# EAGLE library part 8748 (library oldchips)
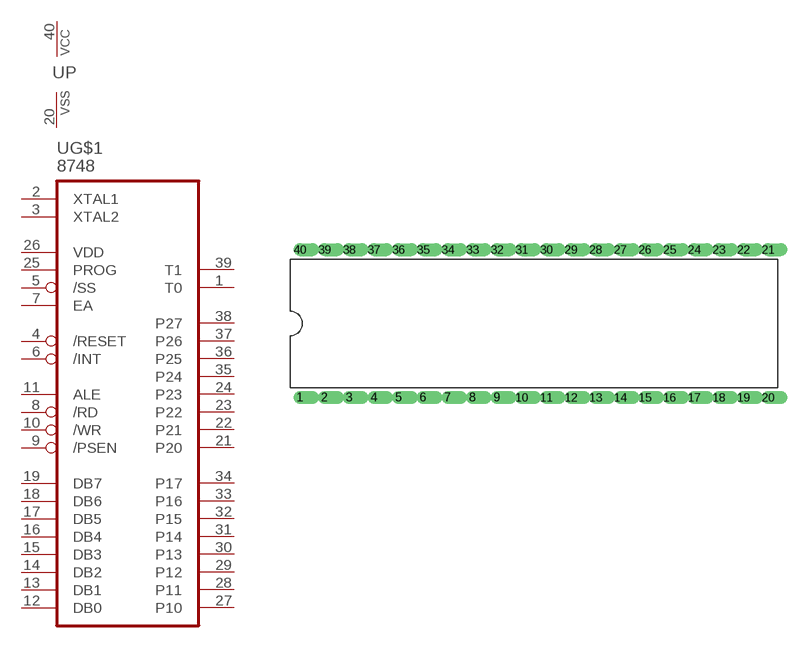
[diagram p3: symbol with the pads of DIL40; footprint DIL40]

Designator prefix U; gates G$1=8748 P=VCCVSS

## 8748  [DIL40]
1  G$1:T0  in
2  G$1:XTAL1  in
3  G$1:XTAL2  in
4  G$1:/RESET  in
5  G$1:/SS  in
6  G$1:/INT
7  G$1:EA  in
8  G$1:/RD  out
9  G$1:/PSEN  out
10  G$1:/WR  out
11  G$1:ALE  out
12  G$1:DB0
13  G$1:DB1
14  G$1:DB2
15  G$1:DB3
16  G$1:DB4
17  G$1:DB5
18  G$1:DB6
19  G$1:DB7
20  P:VSS  pwr
21  G$1:P20
22  G$1:P21
23  G$1:P22
24  G$1:P23
25  G$1:PROG
26  G$1:VDD  sup
27  G$1:P10
28  G$1:P11
29  G$1:P12
30  G$1:P13
31  G$1:P14
32  G$1:P15
33  G$1:P16
34  G$1:P17
35  G$1:P24
36  G$1:P25
37  G$1:P26
38  G$1:P27
39  G$1:T1  in
40  P:VCC  pwr

## Footprint DIL40 (pad centres in mm)
Dual In Line
drill 0.813 offset: 1 -24.13,-7.62; 2 -21.59,-7.62; 3 -19.05,-7.62; 4 -16.51,-7.62; 5 -13.97,-7.62; 6 -11.43,-7.62; 7 -8.89,-7.62; 8 -6.35,-7.62; 9 -3.81,-7.62; 10 -1.27,-7.62; 11 1.27,-7.62; 12 3.81,-7.62; 13 6.35,-7.62; 14 8.89,-7.62; 15 11.43,-7.62; 16 13.97,-7.62; 17 16.51,-7.62; 18 19.05,-7.62; 19 21.59,-7.62; 20 24.13,-7.62; 21 24.13,7.62; 22 21.59,7.62; 23 19.05,7.62; 24 16.51,7.62; 25 13.97,7.62; 26 11.43,7.62; 27 8.89,7.62; 28 6.35,7.62; 29 3.81,7.62; 30 1.27,7.62; 31 -1.27,7.62; 32 -3.81,7.62; 33 -6.35,7.62; 34 -8.89,7.62; 35 -11.43,7.62; 36 -13.97,7.62; 37 -16.51,7.62; 38 -19.05,7.62; 39 -21.59,7.62; 40 -24.13,7.62